# Altium footprint library Header-2mm-2X4-M-V.PcbLib: 1 footprints
Each footprint in its own frame and in the unit in brackets; x right, y up, seen from the top. Pads: shape width x height; smd on the part's side, far side on the other; paste and mask are expansions set on the pad; w line width, h text height; cw(c..) or ccw(c..) is an arc to the next point about the centre after c.
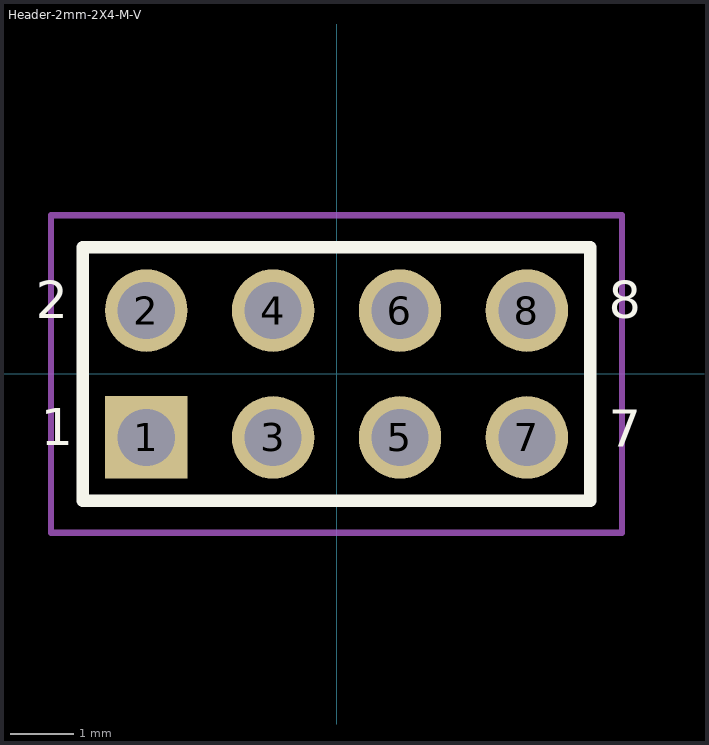
[diagram p0: the footprint, top view; thin cyan lines are the x and y axes]

## Header-2mm-2X4-M-V [mm]
pads (8):
  rect 1.3x1.3 hole 0.9: 1(-3,-1)
  round 1.3 hole 0.9: 2(-3,1) 3(-1,-1) 4(-1,1) 5(1,-1) 6(1,1) 7(3,-1) 8(3,1)
Top Overlay:
  lines w0.2: -4,-2 -4,2 4,2 4,-2 -4,-2
  text "2" at -4.74,0.678 h1
  text "1" at -4.666,-1.322 h1
  text "8" at 4.289,0.684 h1
  text "7" at 4.29,-1.341 h1
Top Courtyard:
  lines w0.1: -4.5,-2.5 -4.5,2.5 4.5,2.5 4.5,-2.5 -4,-2.5 -4.5,-2.5
3D body "MTMM-101-03-F-S-150.stp": height 5.31, standoff -2.36, extent 2,0.001 4,2
3D body "MTMM-101-03-F-S-150.stp": height 5.31, standoff -2.36, extent 2,-1.999 4,0
3D body "MTMM-101-03-F-S-150.stp": height 5.31, standoff -2.36, extent 0,0.001 2,2
3D body "MTMM-101-03-F-S-150.stp": height 5.31, standoff -2.36, extent 0,-1.999 2,0
3D body "MTMM-101-03-F-S-150.stp": height 5.31, standoff -2.36, extent -2,0.001 0,2
3D body "MTMM-101-03-F-S-150.stp": height 5.31, standoff -2.36, extent -4,0.001 -2,2
3D body "MTMM-101-03-F-S-150.stp": height 5.31, standoff -2.36, extent -2,-1.999 0,0
3D body "MTMM-101-03-F-S-150.stp": height 5.31, standoff -2.36, extent -4,-1.999 -2,0